# EAGLE library part RCR433MPR (library wicked-device)
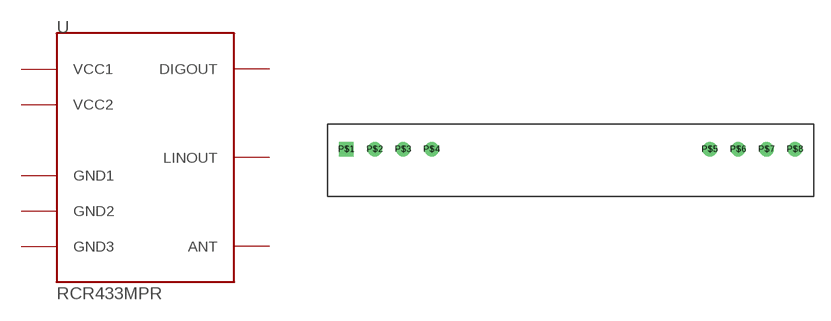
[diagram p3: symbol with the pads of RCR-433-MPR; footprint RCR-433-MPR]

Designator prefix -

## RCR433MPR8-DIP  [RCR-433-MPR]
P$1  GND1  pwr
P$2  DIGOUT
P$3  LINOUT
P$4  VCC1  pwr
P$5  VCC2  pwr
P$6  GND2  pwr
P$7  GND3  pwr
P$8  ANT

## Footprint RCR-433-MPR (pad centres in mm)
drill 0.8 square: P$1 -20.07,0
drill 0.8: P$2 -17.53,0; P$3 -14.99,0; P$4 -12.45,0; P$5 12.45,0; P$6 14.99,0; P$7 17.53,0; P$8 20.07,0